# EAGLE library part DPDT-SWITCHONON (library Chrisvossetje)
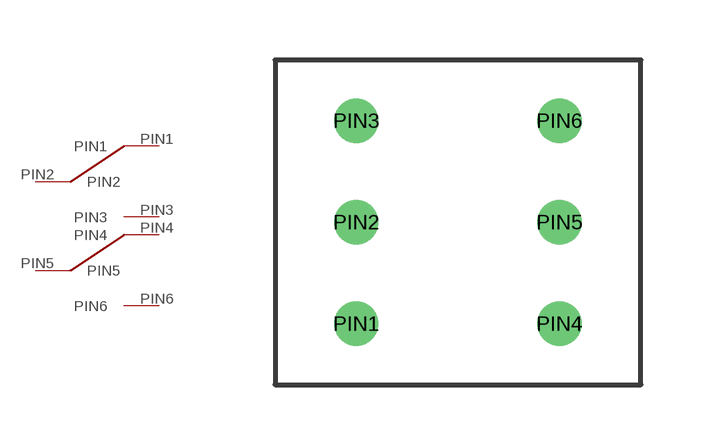
[diagram p0: symbol with the pads of DPDT; footprint DPDT]

Designator prefix -

## DPDT-SWITCHONON  [DPDT]
PIN1  PIN1
PIN2  PIN2
PIN3  PIN3
PIN4  PIN4
PIN5  PIN5
PIN6  PIN6

## Footprint DPDT (pad centres in mm)
drill 0.6: PIN1 -2.54,-2.54; PIN2 -2.54,0; PIN3 -2.54,2.54; PIN4 2.54,-2.54; PIN5 2.54,0; PIN6 2.54,2.54